# EAGLE library part CCD (library CCD)
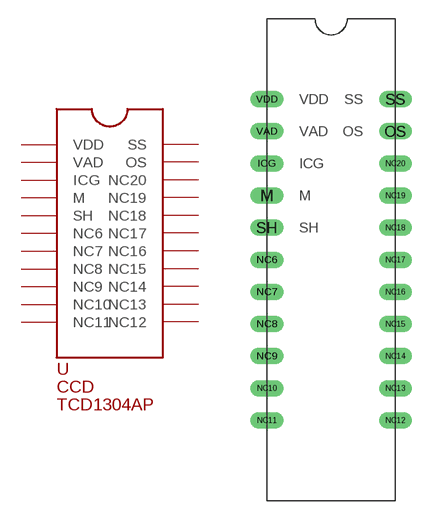
[diagram p0: symbol with the pads of CCD; footprint CCD]

Designator prefix -

## CCD  [CCD]
ICG  ICG
M  M
NC6  NC6
NC7  NC7
NC8  NC8
NC9  NC9
NC10  NC10
NC11  NC11
NC12  NC12
NC13  NC13
NC14  NC14
NC15  NC15
NC16  NC16
NC17  NC17
NC18  NC18
NC19  NC19
NC20  NC20
OS  OS
SH  SH
SS  SS
VAD  VAD
VDD  VDD

## Footprint CCD (pad centres in mm)
drill 0.8 long: ICG -5.08,7.62; M -5.08,5.08; NC6 -5.08,0; NC7 -5.08,-2.54; NC8 -5.08,-5.08; NC9 -5.08,-7.62; NC10 -5.08,-10.16; NC11 -5.08,-12.7; NC12 5.08,-12.7; NC13 5.08,-10.16; NC14 5.08,-7.62; NC15 5.08,-5.08; NC16 5.08,-2.54; NC17 5.08,0; NC18 5.08,2.54; NC19 5.08,5.08; NC20 5.08,7.62; OS 5.08,10.16; SH -5.08,2.54; SS 5.08,12.7; VAD -5.08,10.16; VDD -5.08,12.7